# EAGLE library part LM13700 (library SMD)
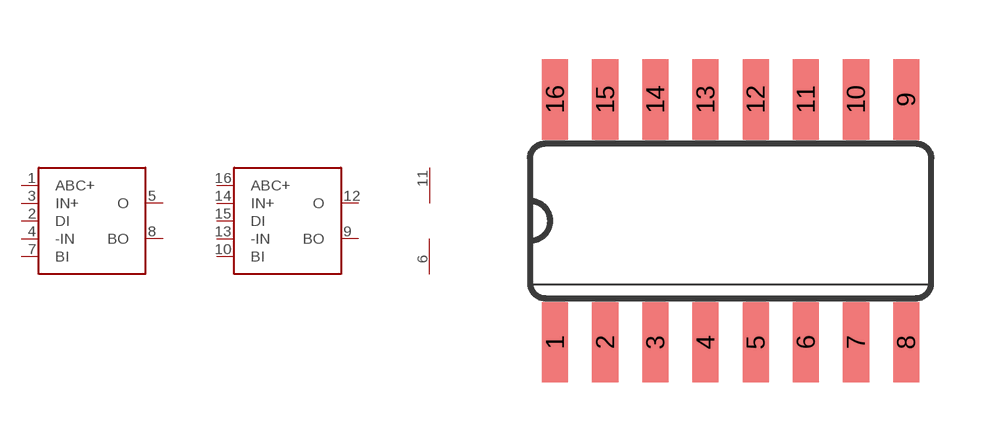
[diagram p4: symbol with the pads of SO16; footprint SO16]

Designator prefix IC; gates G$1=LM13700 G$2=LM13700 G$3=PWR+-

## LM13700  [SO16]
1  G$1:ABC+
2  G$1:DI
3  G$1:IN+
4  G$1:-IN
5  G$1:O
6  G$3:V-  pwr
7  G$1:BI
8  G$1:BO
9  G$2:BO
10  G$2:BI
11  G$3:V+  pwr
12  G$2:O
13  G$2:-IN
14  G$2:IN+
15  G$2:DI
16  G$2:ABC+

## Footprint SO16 (pad centres in mm)
Small Outline Package 16
smd 0.66 x 2.032: 1 -4.445,-3.073; 2 -3.175,-3.073; 3 -1.905,-3.073; 4 -0.635,-3.073; 5 0.635,-3.073; 6 1.905,-3.073; 7 3.175,-3.073; 8 4.445,-3.073; 9 4.445,3.073; 10 3.175,3.073; 11 1.905,3.073; 12 0.635,3.073; 13 -0.635,3.073; 14 -1.905,3.073; 15 -3.175,3.073; 16 -4.445,3.073